# EAGLE library part SWD_10_PIN (library ubo_PQ60)
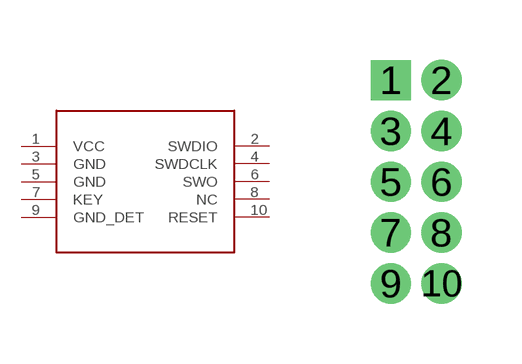
[diagram p23: symbol with the pads of SWD_10_PIN; footprint SWD_10_PIN]

Designator prefix -

## SWD_10_PIN  [SWD_10_PIN]
1  VCC
2  SWDIO
3  GND
4  SWDCLK
5  GND
6  SWO
7  KEY
8  NC
9  GND_DET
10  RESET

## Footprint SWD_10_PIN (pad centres in mm)
drill 0.5 square: 1 0,5.08
drill 0.5: 2 1.27,5.08; 3 0,3.81; 4 1.27,3.81; 5 0,2.54; 6 1.27,2.54; 7 0,1.27; 8 1.27,1.27; 9 0,0; 10 1.27,0